# Altium footprint library Bourns_SDR_inductors.PcbLib: 8 footprints
Each footprint in its own frame and in the unit in brackets; x right, y up, seen from the top. Pads: shape width x height; smd on the part's side, far side on the other; paste and mask are expansions set on the pad; w line width, h text height; cw(c..) or ccw(c..) is an arc to the next point about the centre after c.
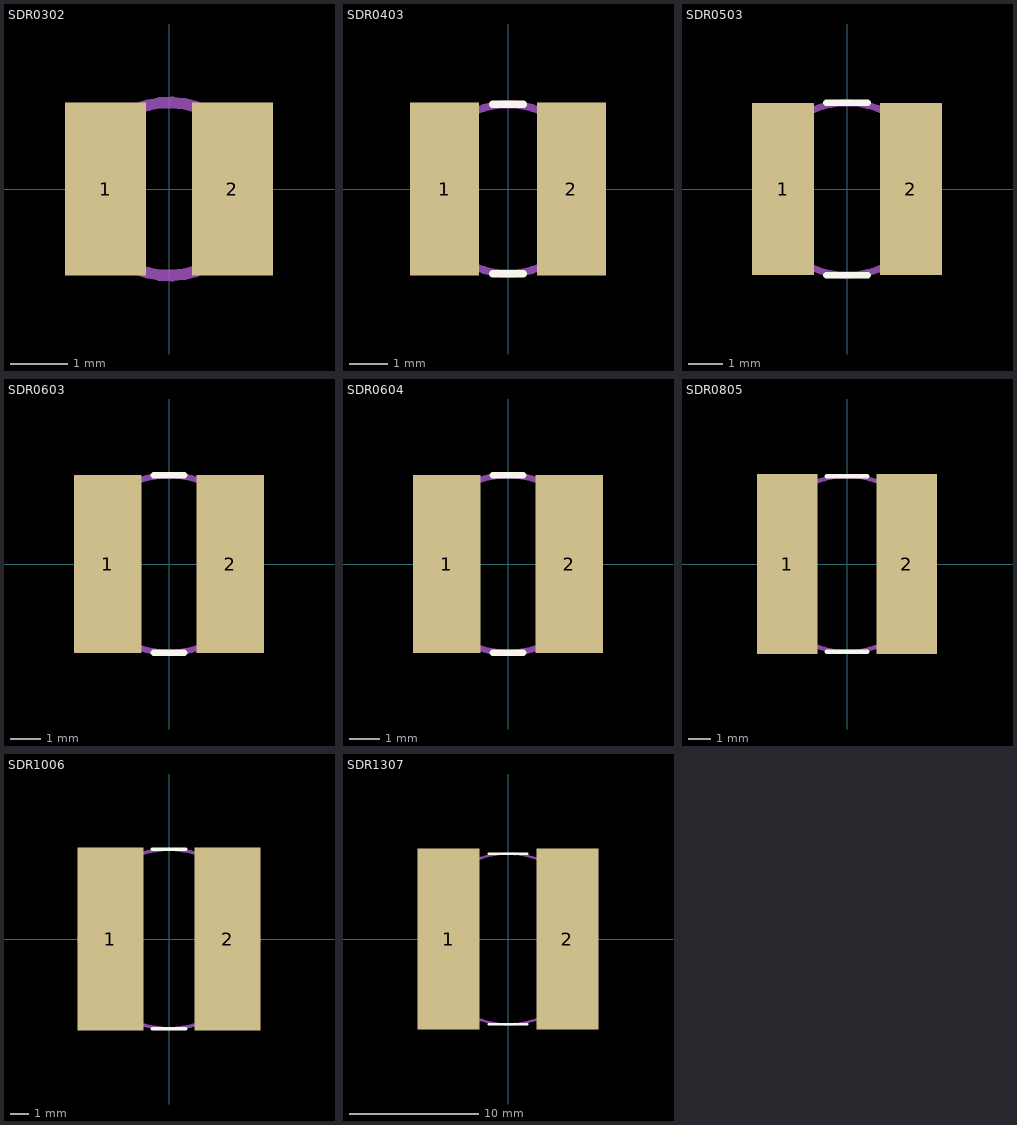
[diagram p0: the footprints below, top view; thin cyan lines are the x and y axes]

## SDR0302 [mm]
pads (2):
  rect 1.4x3 smd mask+0.07: 1(-1.1,0) 2(1.1,0)
TopAssy:
  circle w0.2: c0,0 r1.5
  lines w0.2: -1.4,-0.4 -1.1,-0.4 ccw(c-1.1,0) -1.1,0.4 -1.4,0.4 ; 1.4,-0.4 1.1,-0.4 cw(c1.1,0) 1.1,0.4 1.4,0.4
3D body "SDR0302.stp": height 2.51, standoff 0, extent -1.55,-1.55 1.55,1.548

## SDR0403 [mm]
pads (2):
  rect 1.8x4.5 smd mask+0.07: 1(-1.65,0) 2(1.65,0)
Top Overlay:
  lines w0.2: -0.4,-2.2 0.4,-2.2 ; -0.4,2.2 0.4,2.2
TopAssy:
  circle w0.2: c0,0 r2.2
  lines w0.2: -2.1,-0.4 -1.8,-0.4 ccw(c-1.8,0) -1.8,0.4 -2.1,0.4 ; 2.1,-0.4 1.8,-0.4 cw(c1.8,0) 1.8,0.4 2.1,0.4
3D body "SDR0403.stp": height 3.21, standoff 0, extent -2.25,-2.25 2.25,2.25

## SDR0503 [mm]
pads (2):
  rect 1.8x5 smd mask+0.07: 1(-1.85,0) 2(1.85,0)
Top Overlay:
  lines w0.2: -0.6,-2.5 0.6,-2.5 ; -0.6,2.5 0.6,2.5
TopAssy:
  circle w0.2: c0,0 r2.5
  lines w0.2: -2.4,-0.4 -2.1,-0.4 ccw(c-2.1,0) -2.1,0.4 -2.4,0.4 ; 2.4,-0.4 2.1,-0.4 cw(c2.1,0) 2.1,0.4 2.4,0.4
3D body "SDR0503.stp": height 3.01, standoff 0, extent -2.5,-2.5 2.5,2.5

## SDR0603 [mm]
pads (2):
  rect 2.2x5.8 smd mask+0.07: 1(-2,0) 2(2,0)
Top Overlay:
  lines w0.2: -0.5,-2.9 0.5,-2.9 ; -0.5,2.9 0.5,2.9
TopAssy:
  circle w0.2: c0,0 r2.9
  lines w0.2: -2.8,-0.5 -2.3,-0.5 ccw(c-2.3,0) -2.3,0.5 -2.8,0.5 ; 2.8,-0.5 2.3,-0.5 cw(c2.3,0) 2.3,0.5 2.8,0.5
3D body "SDR0603.stp": height 3.01, standoff 0, extent -2.9,-2.9 2.9,2.9

## SDR0604 [mm]
pads (2):
  rect 2.2x5.8 smd mask+0.07: 1(-2,0) 2(2,0)
Top Overlay:
  lines w0.2: -0.5,-2.9 0.5,-2.9 ; -0.5,2.9 0.5,2.9
TopAssy:
  circle w0.2: c0,0 r2.9
  lines w0.2: -2.8,-0.5 -2.3,-0.5 ccw(c-2.3,0) -2.3,0.5 -2.8,0.5 ; 2.8,-0.5 2.3,-0.5 cw(c2.3,0) 2.3,0.5 2.8,0.5
3D body "SDR0604.stp": height 5.01, standoff 0, extent -2.9,-2.9 2.9,2.9

## SDR0805 [mm]
pads (2):
  rect 2.7x8 smd mask+0.07: 1(-2.65,0) 2(2.65,0)
Top Overlay:
  lines w0.2: -0.9,-3.9 0.9,-3.9 ; -0.9,3.9 0.9,3.9
TopAssy:
  circle w0.2: c0,0 r3.9
  lines w0.2: -3.8,-0.5 -3.3,-0.5 ccw(c-3.3,0) -3.3,0.5 -3.8,0.5 ; 3.8,-0.5 3.3,-0.5 cw(c3.3,0) 3.3,0.5 3.8,0.5
3D body "SDR0805.stp": height 5.31, standoff 0, extent -3.9,-3.9 3.9,3.9

## SDR1006 [mm]
pads (2):
  rect 3.6x10 smd mask+0.07: 1(-3.2,0) 2(3.2,0)
Top Overlay:
  lines w0.2: -0.9,-4.9 0.9,-4.9 ; -0.9,4.9 0.9,4.9
TopAssy:
  circle w0.2: c0,0 r4.9
  lines w0.2: -4.8,-0.7 -4.1,-0.7 ccw(c-4.1,0) -4.1,0.7 -4.8,0.7 ; 4.8,-0.7 4.1,-0.7 cw(c4.1,0) 4.1,0.7 4.8,0.7
3D body "SDR1006.stp": height 5.81, standoff 0, extent -4.9,-4.9 4.9,4.9

## SDR1307 [mm]
pads (2):
  rect 4.8x14 smd mask+0.07: 1(-4.6,0) 2(4.6,0)
Top Overlay:
  lines w0.2: -1.5,-6.6 1.5,-6.6 ; -1.5,6.6 1.5,6.6
TopAssy:
  circle w0.2: c0,0 r6.6
  lines w0.2: -6.5,-0.7 -5.8,-0.7 ccw(c-5.8,0) -5.8,0.7 -6.5,0.7 ; 6.5,-0.7 5.8,-0.7 cw(c5.8,0) 5.8,0.7 6.5,0.7
3D body "SDR1307.stp": height 7.11, standoff 0, extent -6.5,-6.5 6.5,6.5